# Altium footprint library LAB11.PcbLib: 4 footprints
Each footprint in its own frame and in the unit in brackets; x right, y up, seen from the top. Pads: shape width x height; smd on the part's side, far side on the other; paste and mask are expansions set on the pad; w line width, h text height; cw(c..) or ccw(c..) is an arc to the next point about the centre after c.
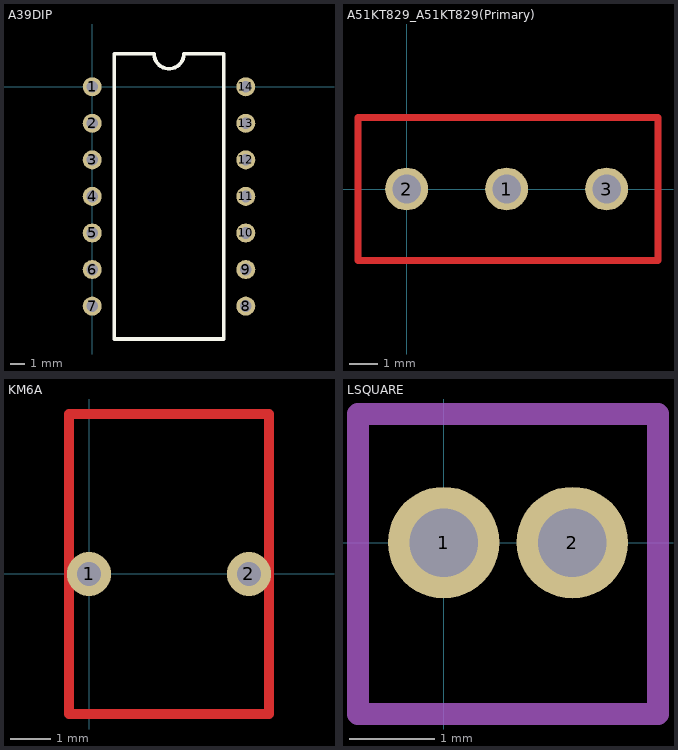
[diagram p0: the footprints below, top view; thin cyan lines are the x and y axes]

## A39DIP [mm]
pads (14):
  round 1.3 hole 0.8: 1(0,0) 2(0,-2.5) 3(0,-5) 4(0,-7.5) 5(0,-10) 6(0,-12.5) 7(0,-15) 8(10.5,-15) 9(10.5,-12.5) 10(10.5,-10) 11(10.5,-7.5) 12(10.5,-5) 13(10.5,-2.5) 14(10.5,0)
Top Overlay:
  lines w0.254: 1.5,-17.25 1.5,2.25 4.234,2.25 ccw(c5.25,2.25) 6.266,2.25 9,2.25 9,-17.25 1.5,-17.25

## A51KT829_A51KT829(Primary) [mm]
pads (3):
  round 1.5 hole 1: 1(3.5,0) 2(0,0) 3(7,0)
Top Layer:
  lines w0.254: -1.7,-2.5 8.8,-2.5 8.8,2.5 -1.7,2.5 -1.7,-2.5

## KM6A [mm]
pads (2):
  round 1.1 hole 0.6: 1(0,0) 2(4,0)
Top Layer:
  lines w0.254: -0.5,-3.5 4.5,-3.5 4.5,4 -0.5,4 -0.5,-3.5

## LSQUARE [mm]
pads (2):
  round 1.3 hole 0.8: 1(0,0) 2(1.5,0)
Mechanical 1:
  lines w0.254: -1,-2 2.5,-2 2.5,1.5 -1,1.5 -1,-2